# Altium schematic symbol library BAT54VV,115.SchLib: 1 symbol
Pins are listed as number, name and electrical type; pins without a type are passive.

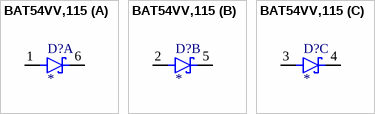
[diagram p0: symbol BAT54VV,115]

## BAT54VV,115
designator D?
Diode Array 3 Independent Schottky 30V 200mA (DC) Surface Mount SOT-563, SOT-666; MF: Nexperia USA; MP: BAT54VV,115; Value: *; Digi-Key_Part_Number: 1727-4820-1-ND; Check_prices: https://www.snapeda.com/parts/BAT54VV,115/Nexperia/view-part/2773680/?ref=eda; Package: SOT666-6 Nexperia USA Inc.; SnapEDA_Link: https://www.snapeda.com/parts/BAT54VV,115/Nexperia/view-part/2773680/?ref=snap; Purchase-URL: https://pricing.snapeda.com/search/part/BAT54VV,115/?ref=eda
footprint SOT50P160X60-6N
part A pins: 1 A, 6 C
part B pins: 2 A, 5 C
part C pins: 3 A, 4 C